# Altium schematic symbol library Display_Graphic.SchLib: 39 symbols
Pins are listed as number, name and electrical type; pins without a type are passive.

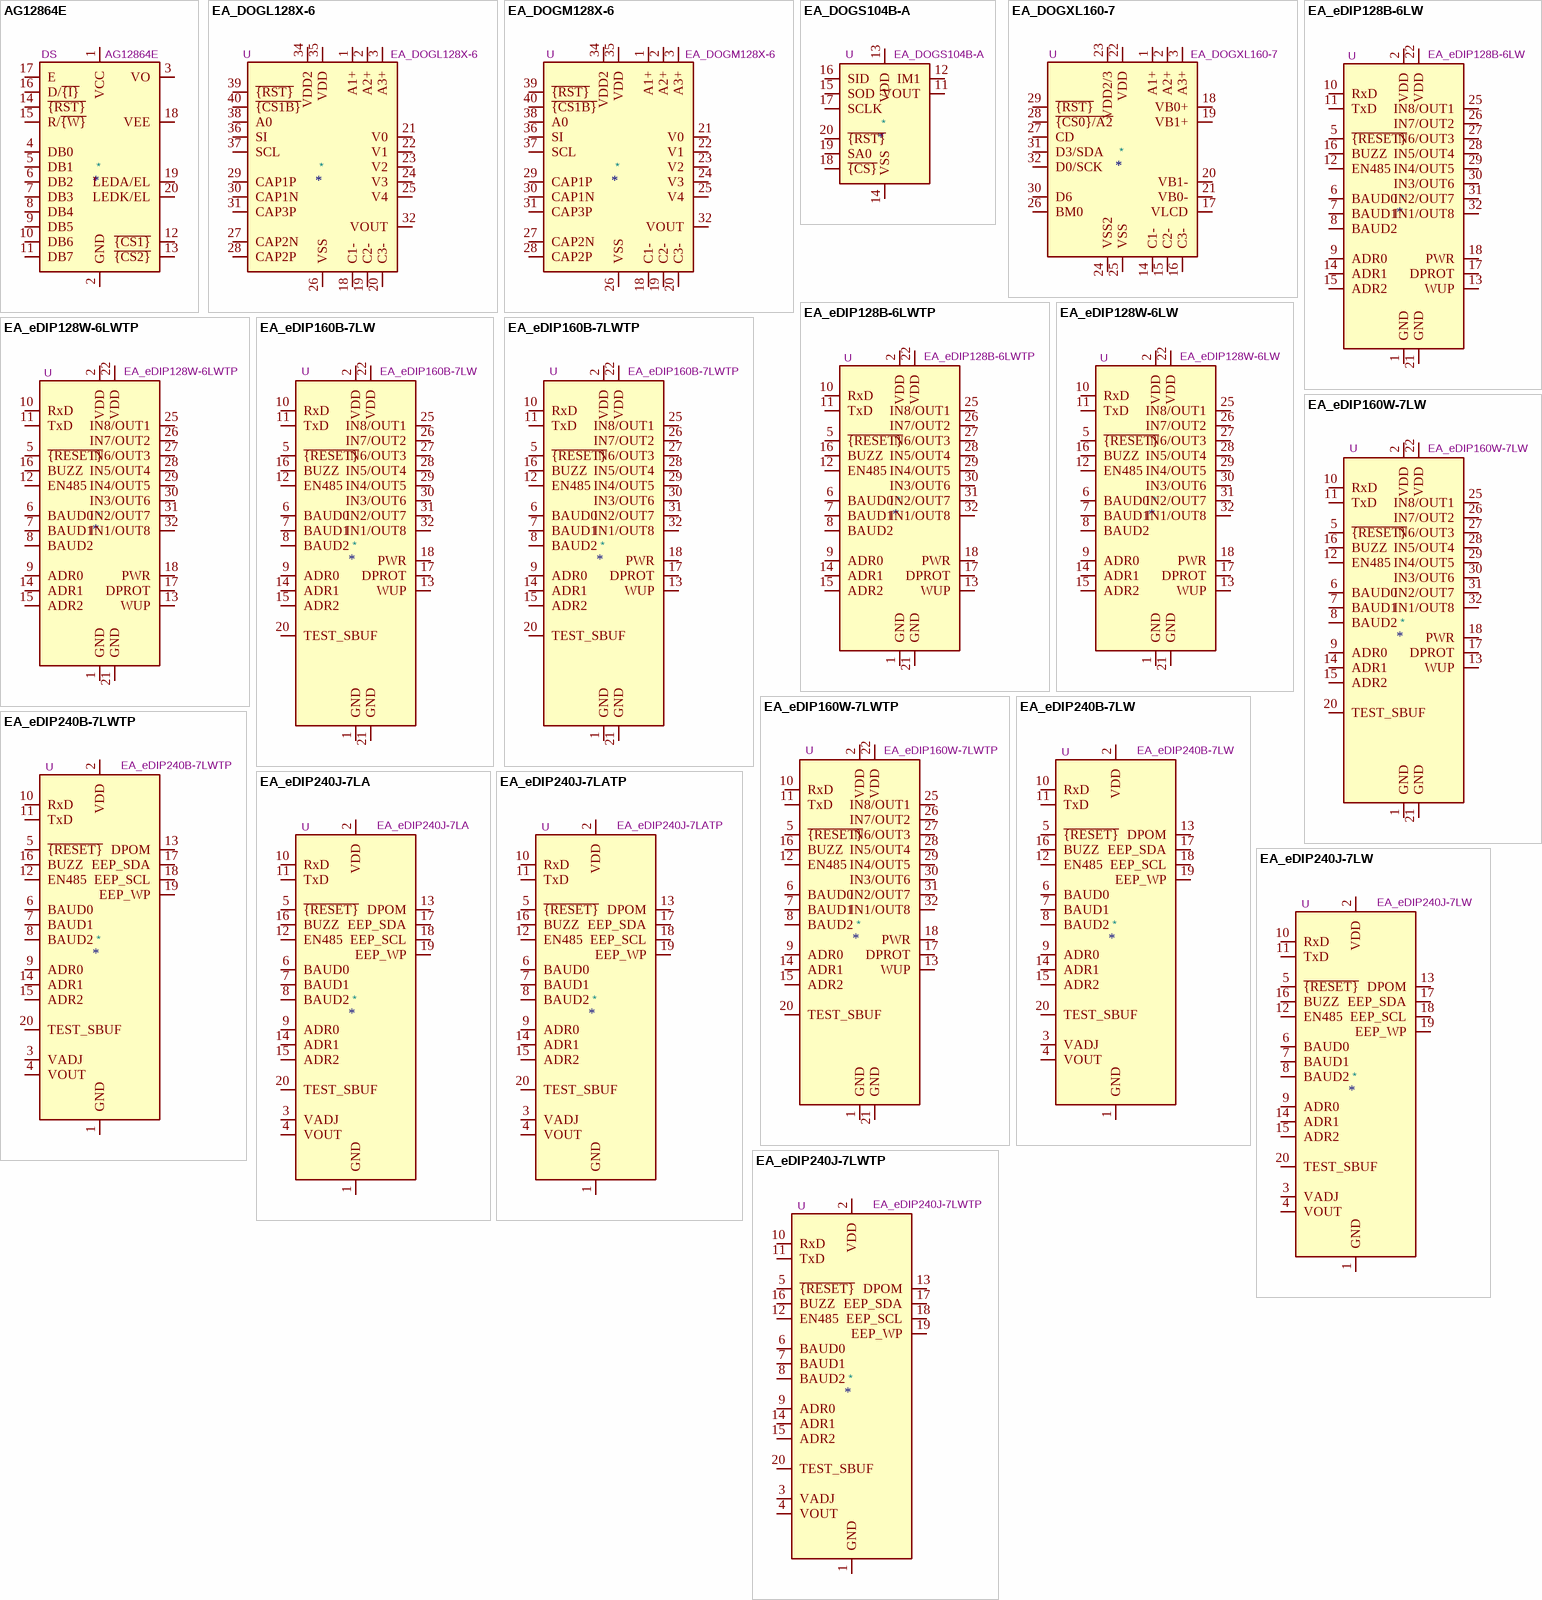
[diagram p0: symbols AG12864E to EA_eDIP240J-7LWTP]

## AG12864E
designator *  value AG12864E  Reference: DS
ki_keywords: display LCD graphic; ki_description: Graphics Display 128x64px,  8b parallel, 1/64 Duty, 3.3V or 5V VDD; ki_fp_filters: *AG12864E*; Footprint: Display:AG12864E; Datasheet: https://www.digchip.com/datasheets/parts/datasheet/1121/AG-12864E-pdf.php
pins: 1 VCC, 2 GND, 3 VO, 4 DB0, 5 DB1, 6 DB2, 7 DB3, 8 DB4, 9 DB5, 10 DB6, 11 DB7, 12 ~{{CS1}}, 13 ~{{CS2}}, 14 ~{{RST}}, 15 R/~{{W}}, 16 D/~{{I}}, 17 E, 18 VEE, 19 LEDA/EL, 20 LEDK/EL

## EA_DOGL128X-6
designator *  value EA_DOGL128X-6  Reference: U
ki_keywords: display LCD graphic; ki_description: EA DOGL128X-6 Graphical Display 128x64 optional backlight SPI 3.0-3.3V; ki_fp_filters: EA*DOGL128*6*; Footprint: Display:EA_DOGL128-6; Datasheet: https://www.lcd-module.com/eng/pdf/grafik/dogl128-6e.pdf
pins: 1 A1+, 2 A2+, 3 A3+, 18 C1-, 19 C2-, 20 C3-, 21 V0, 22 V1, 23 V2, 24 V3, 25 V4, 26 VSS, 27 CAP2N, 28 CAP2P, 29 CAP1P, 30 CAP1N, 31 CAP3P, 32 VOUT, 33 VSS hidden, 34 VDD2, 35 VDD, 36 SI, 37 SCL, 38 A0, 39 ~{{RST}}, 40 ~{{CS1B}}

## EA_DOGM128X-6
designator *  value EA_DOGM128X-6  Reference: U
ki_keywords: display LCD graphic; ki_description: EA DOGM128X-6 Graphical Display 128x64 optional backlight SPI 3.0-3.3V; ki_fp_filters: EA*DOGM128*6*; Footprint: Display:EA_DOGM128-6; Datasheet: https://www.lcd-module.de/eng/pdf/grafik/dogm128e.pdf
pins: 1 A1+, 2 A2+, 3 A3+, 18 C1-, 19 C2-, 20 C3-, 21 V0, 22 V1, 23 V2, 24 V3, 25 V4, 26 VSS, 27 CAP2N, 28 CAP2P, 29 CAP1P, 30 CAP1N, 31 CAP3P, 32 VOUT, 33 VSS hidden, 34 VDD2, 35 VDD, 36 SI, 37 SCL, 38 A0, 39 ~{{RST}}, 40 ~{{CS1B}}

## EA_DOGS104B-A
designator *  value EA_DOGS104B-A  Reference: U
ki_keywords: display LCD graphic; ki_description: LCD 4x10 character display blue transmissive background, +3.3V VDD, I2C or SPI; ki_fp_filters: *EA*DOGS104*; Footprint: Display:EA_DOGS104X-A; Datasheet: http://www.lcd-module.com/fileadmin/eng/pdf/doma/dogs104e.pdf
pins: 1 NC hidden, 2 NC hidden, 9 NC hidden, 10 NC hidden, 11 VOUT, 12 IM1, 13 VDD, 14 VSS, 15 SOD, 16 SID, 17 SCLK, 18 ~{{CS}}, 19 SA0, 20 ~{{RST}}

## EA_DOGXL160-7
designator *  value EA_DOGXL160-7  Reference: U
ki_keywords: display LCD graphic; ki_description: EA DOGXL160-7 Graphical Display 160x104 no back light I2C SPI 2.7-3.3V; ki_fp_filters: EA*DOGXL160*7*; Footprint: Display:EA_DOGXL160-7; Datasheet: http://www.lcd-module.com/eng/pdf/grafik/dogxl160-7e.pdf
pins: 1 A1+, 2 A2+, 3 A3+, 14 C1-, 15 C2-, 16 C3-, 17 VLCD, 18 VB0+, 19 VB1+, 20 VB1-, 21 VB0-, 22 VDD, 23 VDD2/3, 24 VSS2, 25 VSS, 26 BM0, 27 CD, 28 ~{{CS0}/A2}, 29 ~{{RST}}, 30 D6, 31 D3/SDA, 32 D0/SCK

## EA_eDIP128B-6LW
designator *  value EA_eDIP128B-6LW  Reference: U
ki_keywords: display LCD graphic; ki_description: LCD-graphical display with LED backlight blue negative, 3.3V - 5V VDD, RS-232. I2C or SPI; ki_fp_filters: *EA*eDIP128B*; Footprint: Display:EA-eDIP128B-XXX; Datasheet: http://www.lcd-module.com/fileadmin/eng/pdf/grafik/edip128-6e.pdf
pins: 1 GND, 2 VDD, 3 NC hidden, 4 NC hidden, 5 ~{{RESET}}, 6 BAUD0, 7 BAUD1, 8 BAUD2, 9 ADR0, 10 RxD, 11 TxD, 12 EN485, 13 WUP, 14 ADR1, 15 ADR2, 16 BUZZ, 17 DPROT, 18 PWR, 19 NC hidden, 21 GND, 22 VDD, 23 NC hidden, 24 NC hidden, 25 IN8/OUT1, 26 IN7/OUT2, 27 IN6/OUT3, 28 IN5/OUT4, 29 IN4/OUT5, 30 IN3/OUT6, 31 IN2/OUT7, 32 IN1/OUT8

## EA_eDIP128B-6LWTP
designator *  value EA_eDIP128B-6LWTP  Reference: U
ki_keywords: display LCD graphic; ki_description: LCD-graphical display with LED backlight and touch panel blue negative, 3.3V - 5V VDD, RS-232. I2C or SPI; ki_fp_filters: *EA*eDIP128B*; Footprint: Display:EA-eDIP128B-XXX; Datasheet: http://www.lcd-module.com/fileadmin/eng/pdf/grafik/edip128-6e.pdf
pins: 1 GND, 2 VDD, 3 NC hidden, 4 NC hidden, 5 ~{{RESET}}, 6 BAUD0, 7 BAUD1, 8 BAUD2, 9 ADR0, 10 RxD, 11 TxD, 12 EN485, 13 WUP, 14 ADR1, 15 ADR2, 16 BUZZ, 17 DPROT, 18 PWR, 19 NC hidden, 21 GND, 22 VDD, 23 NC hidden, 24 NC hidden, 25 IN8/OUT1, 26 IN7/OUT2, 27 IN6/OUT3, 28 IN5/OUT4, 29 IN4/OUT5, 30 IN3/OUT6, 31 IN2/OUT7, 32 IN1/OUT8

## EA_eDIP128W-6LW
designator *  value EA_eDIP128W-6LW  Reference: U
ki_keywords: display LCD graphic; ki_description: LCD-graphical display with LED backlight positive mode FSTN, 3.3V - 5V VDD, RS-232. I2C or SPI; ki_fp_filters: *EA*eDIP128B*; Footprint: Display:EA-eDIP128B-XXX; Datasheet: http://www.lcd-module.com/fileadmin/eng/pdf/grafik/edip128-6e.pdf
pins: 1 GND, 2 VDD, 3 NC hidden, 4 NC hidden, 5 ~{{RESET}}, 6 BAUD0, 7 BAUD1, 8 BAUD2, 9 ADR0, 10 RxD, 11 TxD, 12 EN485, 13 WUP, 14 ADR1, 15 ADR2, 16 BUZZ, 17 DPROT, 18 PWR, 19 NC hidden, 21 GND, 22 VDD, 23 NC hidden, 24 NC hidden, 25 IN8/OUT1, 26 IN7/OUT2, 27 IN6/OUT3, 28 IN5/OUT4, 29 IN4/OUT5, 30 IN3/OUT6, 31 IN2/OUT7, 32 IN1/OUT8

## EA_eDIP128W-6LWTP
designator *  value EA_eDIP128W-6LWTP  Reference: U
ki_keywords: display LCD graphic; ki_description: LCD-graphical display with LED backlight and touch panel positive mode FSTN, 3.3V - 5V VDD, RS-232. I2C or SPI; ki_fp_filters: *EA*eDIP128B*; Footprint: Display:EA-eDIP128B-XXX; Datasheet: http://www.lcd-module.com/fileadmin/eng/pdf/grafik/edip128-6e.pdf
pins: 1 GND, 2 VDD, 3 NC hidden, 4 NC hidden, 5 ~{{RESET}}, 6 BAUD0, 7 BAUD1, 8 BAUD2, 9 ADR0, 10 RxD, 11 TxD, 12 EN485, 13 WUP, 14 ADR1, 15 ADR2, 16 BUZZ, 17 DPROT, 18 PWR, 19 NC hidden, 21 GND, 22 VDD, 23 NC hidden, 24 NC hidden, 25 IN8/OUT1, 26 IN7/OUT2, 27 IN6/OUT3, 28 IN5/OUT4, 29 IN4/OUT5, 30 IN3/OUT6, 31 IN2/OUT7, 32 IN1/OUT8

## EA_eDIP160B-7LW
designator *  value EA_eDIP160B-7LW  Reference: U
ki_keywords: display LCD graphic; ki_description: LCD-graphical display 160x104 with LED backlight, blue negative, 3.3V - 5V VDD, RS-232, I2C or SPI; ki_fp_filters: *EA*eDIP160*; Footprint: Display:EA_eDIP160-XXX; Datasheet: http://www.lcd-module.com/fileadmin/eng/pdf/grafik/edip160-7e.pdf
pins: 1 GND, 2 VDD, 3 NC hidden, 4 NC hidden, 5 ~{{RESET}}, 6 BAUD0, 7 BAUD1, 8 BAUD2, 9 ADR0, 10 RxD, 11 TxD, 12 EN485, 13 WUP, 14 ADR1, 15 ADR2, 16 BUZZ, 17 DPROT, 18 PWR, 19 NC hidden, 20 TEST_SBUF, 21 GND, 22 VDD, 23 NC hidden, 24 NC hidden, 25 IN8/OUT1, 26 IN7/OUT2, 27 IN6/OUT3, 28 IN5/OUT4, 29 IN4/OUT5, 30 IN3/OUT6, 31 IN2/OUT7, 32 IN1/OUT8, 33 NC hidden, 34 NC hidden, 35 NC hidden, 36 NC hidden, 37 NC hidden, 38 NC hidden, 39 NC hidden, 40 NC hidden

## EA_eDIP160B-7LWTP
designator *  value EA_eDIP160B-7LWTP  Reference: U
ki_keywords: display LCD graphic; ki_description: LCD-graphical display 160x104 with LED backlight and touch panel, blue negative, 3.3V - 5V VDD, RS-232, I2C or SPI; ki_fp_filters: *EA*eDIP160*; Footprint: Display:EA_eDIP160-XXX; Datasheet: http://www.lcd-module.com/fileadmin/eng/pdf/grafik/edip160-7e.pdf
pins: 1 GND, 2 VDD, 3 NC hidden, 4 NC hidden, 5 ~{{RESET}}, 6 BAUD0, 7 BAUD1, 8 BAUD2, 9 ADR0, 10 RxD, 11 TxD, 12 EN485, 13 WUP, 14 ADR1, 15 ADR2, 16 BUZZ, 17 DPROT, 18 PWR, 19 NC hidden, 20 TEST_SBUF, 21 GND, 22 VDD, 23 NC hidden, 24 NC hidden, 25 IN8/OUT1, 26 IN7/OUT2, 27 IN6/OUT3, 28 IN5/OUT4, 29 IN4/OUT5, 30 IN3/OUT6, 31 IN2/OUT7, 32 IN1/OUT8, 33 NC hidden, 34 NC hidden, 35 NC hidden, 36 NC hidden, 37 NC hidden, 38 NC hidden, 39 NC hidden, 40 NC hidden

## EA_eDIP160W-7LW
designator *  value EA_eDIP160W-7LW  Reference: U
ki_keywords: display LCD graphic; ki_description: LCD-graphical display 160x104 with LED backlight, positive mode FSTN, 3.3V - 5V VDD, RS-232, I2C or SPI; ki_fp_filters: *EA*eDIP160*; Footprint: Display:EA_eDIP160-XXX; Datasheet: http://www.lcd-module.com/fileadmin/eng/pdf/grafik/edip160-7e.pdf
pins: 1 GND, 2 VDD, 3 NC hidden, 4 NC hidden, 5 ~{{RESET}}, 6 BAUD0, 7 BAUD1, 8 BAUD2, 9 ADR0, 10 RxD, 11 TxD, 12 EN485, 13 WUP, 14 ADR1, 15 ADR2, 16 BUZZ, 17 DPROT, 18 PWR, 19 NC hidden, 20 TEST_SBUF, 21 GND, 22 VDD, 23 NC hidden, 24 NC hidden, 25 IN8/OUT1, 26 IN7/OUT2, 27 IN6/OUT3, 28 IN5/OUT4, 29 IN4/OUT5, 30 IN3/OUT6, 31 IN2/OUT7, 32 IN1/OUT8, 33 NC hidden, 34 NC hidden, 35 NC hidden, 36 NC hidden, 37 NC hidden, 38 NC hidden, 39 NC hidden, 40 NC hidden

## EA_eDIP160W-7LWTP
designator *  value EA_eDIP160W-7LWTP  Reference: U
ki_keywords: display LCD graphic; ki_description: LCD-graphical display 160x104 with LED backlight and touch panel, positive mode FSTN, 3.3V - 5V VDD, RS-232, I2C or SPI; ki_fp_filters: *EA*eDIP160*; Footprint: Display:EA_eDIP160-XXX; Datasheet: http://www.lcd-module.com/fileadmin/eng/pdf/grafik/edip160-7e.pdf
pins: 1 GND, 2 VDD, 3 NC hidden, 4 NC hidden, 5 ~{{RESET}}, 6 BAUD0, 7 BAUD1, 8 BAUD2, 9 ADR0, 10 RxD, 11 TxD, 12 EN485, 13 WUP, 14 ADR1, 15 ADR2, 16 BUZZ, 17 DPROT, 18 PWR, 19 NC hidden, 20 TEST_SBUF, 21 GND, 22 VDD, 23 NC hidden, 24 NC hidden, 25 IN8/OUT1, 26 IN7/OUT2, 27 IN6/OUT3, 28 IN5/OUT4, 29 IN4/OUT5, 30 IN3/OUT6, 31 IN2/OUT7, 32 IN1/OUT8, 33 NC hidden, 34 NC hidden, 35 NC hidden, 36 NC hidden, 37 NC hidden, 38 NC hidden, 39 NC hidden, 40 NC hidden

## EA_eDIP240B-7LW
designator *  value EA_eDIP240B-7LW  Reference: U
ki_keywords: display LCD graphic; ki_description: LCD graphical display with white LED background blue negative, 240x128, +5V VDD, RS-232, I2C or SPI; ki_fp_filters: *EA*eDIP240*; Footprint: Display:EA_eDIP240-XXX; Datasheet: http://www.lcd-module.com/fileadmin/eng/pdf/grafik/edip240-7e.pdf
pins: 1 GND, 2 VDD, 3 VADJ, 4 VOUT, 5 ~{{RESET}}, 6 BAUD0, 7 BAUD1, 8 BAUD2, 9 ADR0, 10 RxD, 11 TxD, 12 EN485, 13 DPOM, 14 ADR1, 15 ADR2, 16 BUZZ, 17 EEP_SDA, 18 EEP_SCL, 19 EEP_WP, 20 TEST_SBUF, 21 NC hidden, 22 NC hidden, 23 NC hidden, 24 NC hidden, 25 NC hidden, 26 NC hidden, 27 NC hidden, 28 NC hidden, 29 NC hidden, 30 NC hidden, 31 NC hidden, 32 NC hidden, 33 NC hidden, 34 NC hidden, 35 NC hidden, 36 NC hidden, 37 NC hidden, 38 NC hidden, 39 NC hidden, 40 NC hidden

## EA_eDIP240B-7LWTP
designator *  value EA_eDIP240B-7LWTP  Reference: U
ki_keywords: display LCD graphic; ki_description: LCD graphical display with white LED background and touch panel blue negative, 240x128, +5V VDD, RS-232, I2C or SPI; ki_fp_filters: *EA*eDIP240*; Footprint: Display:EA_eDIP240-XXX; Datasheet: http://www.lcd-module.com/fileadmin/eng/pdf/grafik/edip240-7e.pdf
pins: 1 GND, 2 VDD, 3 VADJ, 4 VOUT, 5 ~{{RESET}}, 6 BAUD0, 7 BAUD1, 8 BAUD2, 9 ADR0, 10 RxD, 11 TxD, 12 EN485, 13 DPOM, 14 ADR1, 15 ADR2, 16 BUZZ, 17 EEP_SDA, 18 EEP_SCL, 19 EEP_WP, 20 TEST_SBUF, 21 NC hidden, 22 NC hidden, 23 NC hidden, 24 NC hidden, 25 NC hidden, 26 NC hidden, 27 NC hidden, 28 NC hidden, 29 NC hidden, 30 NC hidden, 31 NC hidden, 32 NC hidden, 33 NC hidden, 34 NC hidden, 35 NC hidden, 36 NC hidden, 37 NC hidden, 38 NC hidden, 39 NC hidden, 40 NC hidden

## EA_eDIP240J-7LA
designator *  value EA_eDIP240J-7LA  Reference: U
ki_keywords: display LCD graphic; ki_description: LCD graphical display with amber LED background blue positive mode FSTN 240x128, +5V VDD, RS-232, I2C or SPI; ki_fp_filters: *EA*eDIP240*; Footprint: Display:EA_eDIP240-XXX; Datasheet: http://www.lcd-module.com/fileadmin/eng/pdf/grafik/edip240-7e.pdf
pins: 1 GND, 2 VDD, 3 VADJ, 4 VOUT, 5 ~{{RESET}}, 6 BAUD0, 7 BAUD1, 8 BAUD2, 9 ADR0, 10 RxD, 11 TxD, 12 EN485, 13 DPOM, 14 ADR1, 15 ADR2, 16 BUZZ, 17 EEP_SDA, 18 EEP_SCL, 19 EEP_WP, 20 TEST_SBUF, 21 NC hidden, 22 NC hidden, 23 NC hidden, 24 NC hidden, 25 NC hidden, 26 NC hidden, 27 NC hidden, 28 NC hidden, 29 NC hidden, 30 NC hidden, 31 NC hidden, 32 NC hidden, 33 NC hidden, 34 NC hidden, 35 NC hidden, 36 NC hidden, 37 NC hidden, 38 NC hidden, 39 NC hidden, 40 NC hidden

## EA_eDIP240J-7LATP
designator *  value EA_eDIP240J-7LATP  Reference: U
ki_keywords: display LCD graphic; ki_description: LCD graphical display with amber LED background and touch panel blue positive mode FSTN, 240x128, +5V VDD, RS-232, I2C or SPI; ki_fp_filters: *EA*eDIP240*; Footprint: Display:EA_eDIP240-XXX; Datasheet: http://www.lcd-module.com/fileadmin/eng/pdf/grafik/edip240-7e.pdf
pins: 1 GND, 2 VDD, 3 VADJ, 4 VOUT, 5 ~{{RESET}}, 6 BAUD0, 7 BAUD1, 8 BAUD2, 9 ADR0, 10 RxD, 11 TxD, 12 EN485, 13 DPOM, 14 ADR1, 15 ADR2, 16 BUZZ, 17 EEP_SDA, 18 EEP_SCL, 19 EEP_WP, 20 TEST_SBUF, 21 NC hidden, 22 NC hidden, 23 NC hidden, 24 NC hidden, 25 NC hidden, 26 NC hidden, 27 NC hidden, 28 NC hidden, 29 NC hidden, 30 NC hidden, 31 NC hidden, 32 NC hidden, 33 NC hidden, 34 NC hidden, 35 NC hidden, 36 NC hidden, 37 NC hidden, 38 NC hidden, 39 NC hidden, 40 NC hidden

## EA_eDIP240J-7LW
designator *  value EA_eDIP240J-7LW  Reference: U
ki_keywords: display LCD graphic; ki_description: LCD graphical display with white LED background blue positive mode FSTN, 240x128, +5V VDD, RS-232, I2C or SPI; ki_fp_filters: *EA*eDIP240*; Footprint: Display:EA_eDIP240-XXX; Datasheet: http://www.lcd-module.com/fileadmin/eng/pdf/grafik/edip240-7e.pdf
pins: 1 GND, 2 VDD, 3 VADJ, 4 VOUT, 5 ~{{RESET}}, 6 BAUD0, 7 BAUD1, 8 BAUD2, 9 ADR0, 10 RxD, 11 TxD, 12 EN485, 13 DPOM, 14 ADR1, 15 ADR2, 16 BUZZ, 17 EEP_SDA, 18 EEP_SCL, 19 EEP_WP, 20 TEST_SBUF, 21 NC hidden, 22 NC hidden, 23 NC hidden, 24 NC hidden, 25 NC hidden, 26 NC hidden, 27 NC hidden, 28 NC hidden, 29 NC hidden, 30 NC hidden, 31 NC hidden, 32 NC hidden, 33 NC hidden, 34 NC hidden, 35 NC hidden, 36 NC hidden, 37 NC hidden, 38 NC hidden, 39 NC hidden, 40 NC hidden

## EA_eDIP240J-7LWTP
designator *  value EA_eDIP240J-7LWTP  Reference: U
ki_keywords: display LCD graphic; ki_description: LCD graphical display with amber LED background blue positive mode FSTN, 240x128, +5V VDD, RS-232, I2C or SPI; ki_fp_filters: *EA*eDIP240*; Footprint: Display:EA_eDIP240-XXX; Datasheet: http://www.lcd-module.com/fileadmin/eng/pdf/grafik/edip240-7e.pdf
pins: 1 GND, 2 VDD, 3 VADJ, 4 VOUT, 5 ~{{RESET}}, 6 BAUD0, 7 BAUD1, 8 BAUD2, 9 ADR0, 10 RxD, 11 TxD, 12 EN485, 13 DPOM, 14 ADR1, 15 ADR2, 16 BUZZ, 17 EEP_SDA, 18 EEP_SCL, 19 EEP_WP, 20 TEST_SBUF, 21 NC hidden, 22 NC hidden, 23 NC hidden, 24 NC hidden, 25 NC hidden, 26 NC hidden, 27 NC hidden, 28 NC hidden, 29 NC hidden, 30 NC hidden, 31 NC hidden, 32 NC hidden, 33 NC hidden, 34 NC hidden, 35 NC hidden, 36 NC hidden, 37 NC hidden, 38 NC hidden, 39 NC hidden, 40 NC hidden

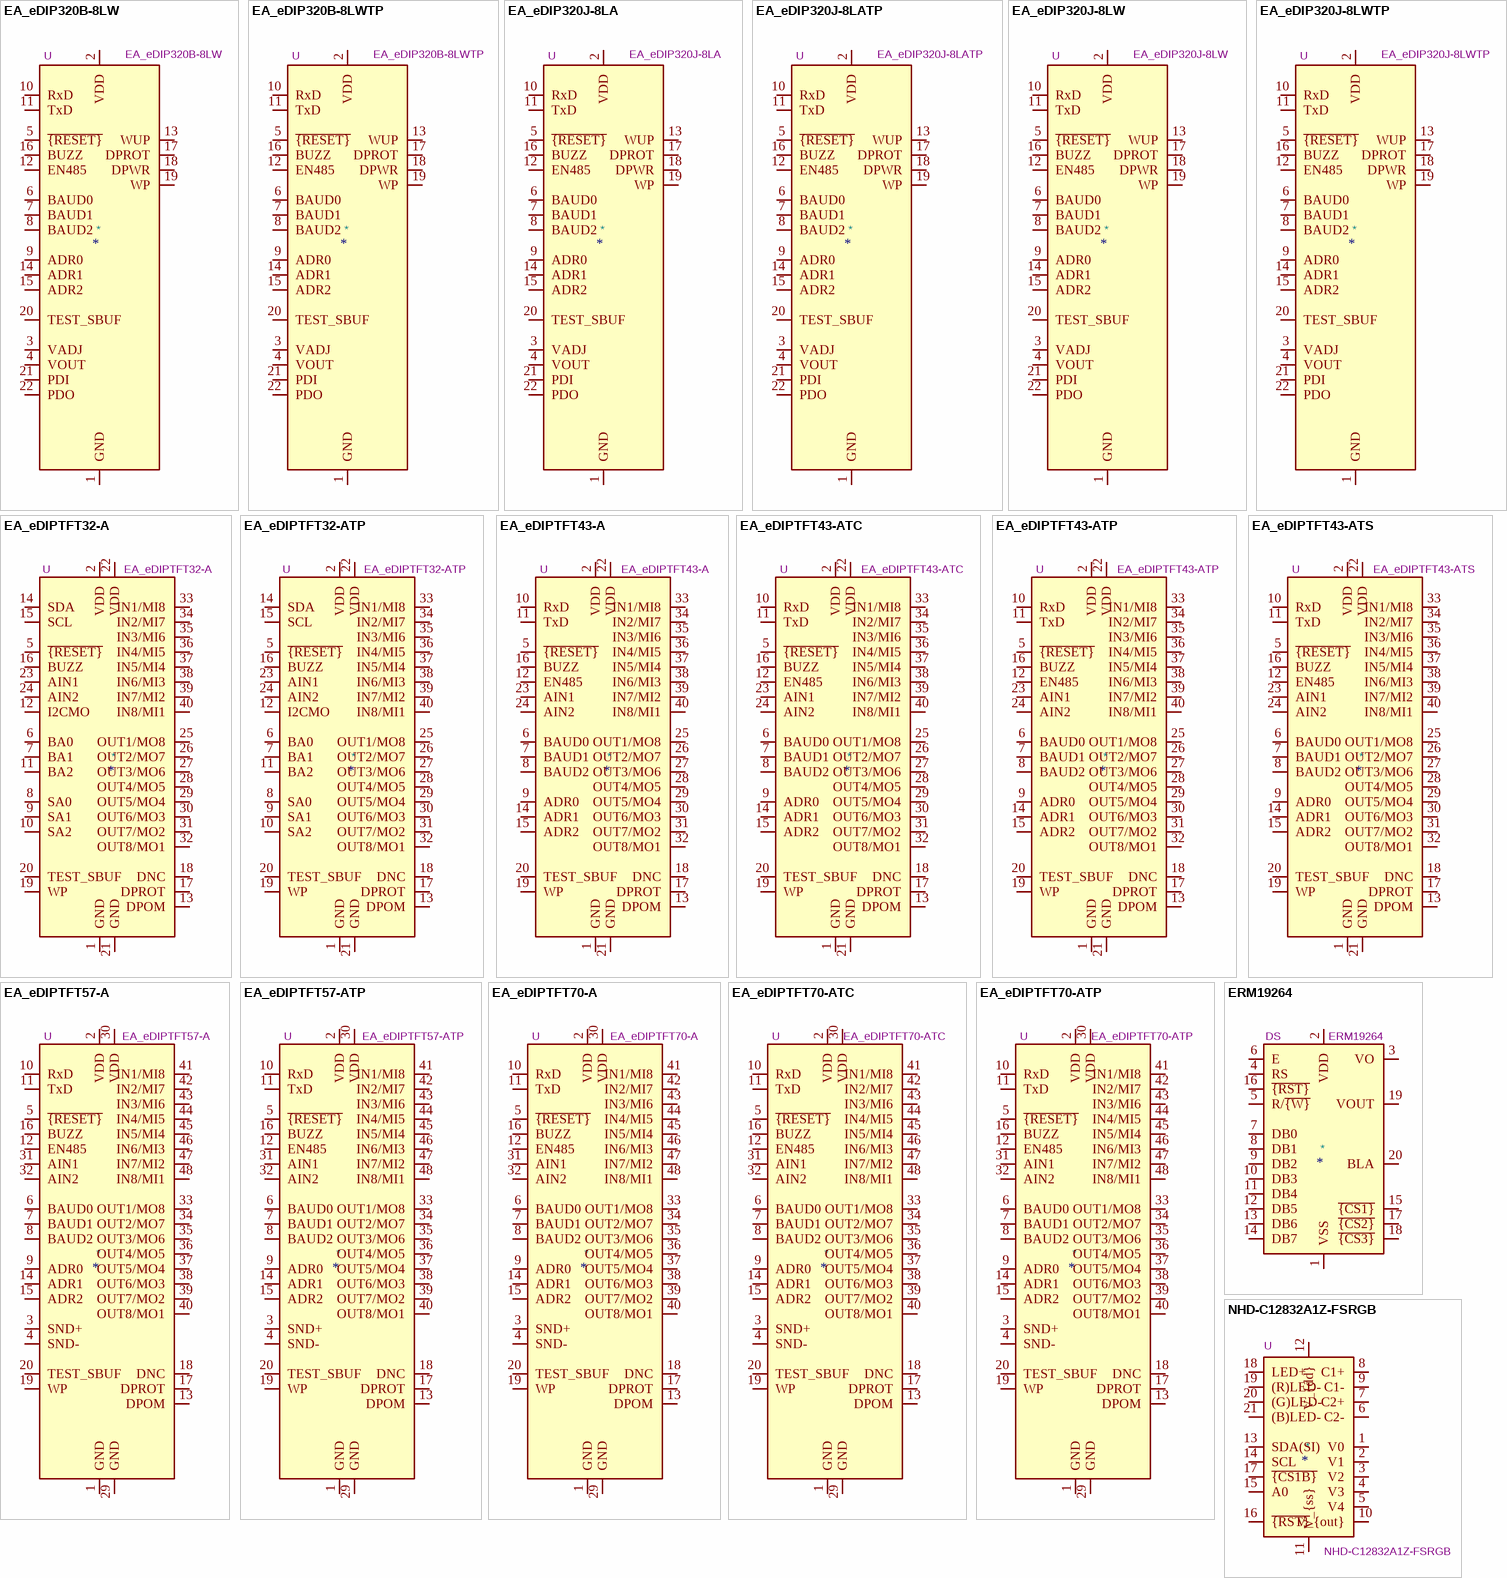
[diagram p1: symbols EA_eDIP320B-8LW to NHD-C12832A1Z-FSRGB]

## EA_eDIP320B-8LW
designator *  value EA_eDIP320B-8LW  Reference: U
ki_keywords: display LCD graphic; ki_description: LCD graphical display 320x240 white LED backlight blue negative, +5V VDD, RS-232, I2C or SPI; ki_fp_filters: *EA*eDIP320*; Footprint: Display:EA_eDIP320X-XXX; Datasheet: http://www.lcd-module.com/fileadmin/eng/pdf/grafik/edip320-8e.pdf
pins: 1 GND, 2 VDD, 3 VADJ, 4 VOUT, 5 ~{{RESET}}, 6 BAUD0, 7 BAUD1, 8 BAUD2, 9 ADR0, 10 RxD, 11 TxD, 12 EN485, 13 WUP, 14 ADR1, 15 ADR2, 16 BUZZ, 17 DPROT, 18 DPWR, 19 WP, 20 TEST_SBUF, 21 PDI, 22 PDO, 23 NC hidden, 24 NC hidden, 25 NC hidden, 26 NC hidden, 27 NC hidden, 28 NC hidden, 29 NC hidden, 30 NC hidden, 31 NC hidden, 32 NC hidden, 33 NC hidden, 34 NC hidden, 35 NC hidden, 36 NC hidden, 37 NC hidden, 38 NC hidden, 39 NC hidden, 40 NC hidden, 41 NC hidden, 42 NC hidden, 43 NC hidden, 44 NC hidden, 45 NC hidden, 46 NC hidden, 47 NC hidden, 78 NC hidden

## EA_eDIP320B-8LWTP
designator *  value EA_eDIP320B-8LWTP  Reference: U
ki_keywords: display LCD graphic; ki_description: LCD graphical display 320x240 white LED backlight with touch panel blue negative, +5V VDD, RS-232, I2C or SPI; ki_fp_filters: *EA*eDIP320*; Footprint: Display:EA_eDIP320X-XXX; Datasheet: http://www.lcd-module.com/fileadmin/eng/pdf/grafik/edip320-8e.pdf
pins: 1 GND, 2 VDD, 3 VADJ, 4 VOUT, 5 ~{{RESET}}, 6 BAUD0, 7 BAUD1, 8 BAUD2, 9 ADR0, 10 RxD, 11 TxD, 12 EN485, 13 WUP, 14 ADR1, 15 ADR2, 16 BUZZ, 17 DPROT, 18 DPWR, 19 WP, 20 TEST_SBUF, 21 PDI, 22 PDO, 23 NC hidden, 24 NC hidden, 25 NC hidden, 26 NC hidden, 27 NC hidden, 28 NC hidden, 29 NC hidden, 30 NC hidden, 31 NC hidden, 32 NC hidden, 33 NC hidden, 34 NC hidden, 35 NC hidden, 36 NC hidden, 37 NC hidden, 38 NC hidden, 39 NC hidden, 40 NC hidden, 41 NC hidden, 42 NC hidden, 43 NC hidden, 44 NC hidden, 45 NC hidden, 46 NC hidden, 47 NC hidden, 78 NC hidden

## EA_eDIP320J-8LA
designator *  value EA_eDIP320J-8LA  Reference: U
ki_keywords: display LCD graphic; ki_description: LCD graphical display 320x240 amber LED backlight blue positive FSTN, +5V VDD, RS-232, I2C or SPI; ki_fp_filters: *EA*eDIP320*; Footprint: Display:EA_eDIP320X-XXX; Datasheet: http://www.lcd-module.com/fileadmin/eng/pdf/grafik/edip320-8e.pdf
pins: 1 GND, 2 VDD, 3 VADJ, 4 VOUT, 5 ~{{RESET}}, 6 BAUD0, 7 BAUD1, 8 BAUD2, 9 ADR0, 10 RxD, 11 TxD, 12 EN485, 13 WUP, 14 ADR1, 15 ADR2, 16 BUZZ, 17 DPROT, 18 DPWR, 19 WP, 20 TEST_SBUF, 21 PDI, 22 PDO, 23 NC hidden, 24 NC hidden, 25 NC hidden, 26 NC hidden, 27 NC hidden, 28 NC hidden, 29 NC hidden, 30 NC hidden, 31 NC hidden, 32 NC hidden, 33 NC hidden, 34 NC hidden, 35 NC hidden, 36 NC hidden, 37 NC hidden, 38 NC hidden, 39 NC hidden, 40 NC hidden, 41 NC hidden, 42 NC hidden, 43 NC hidden, 44 NC hidden, 45 NC hidden, 46 NC hidden, 47 NC hidden, 78 NC hidden

## EA_eDIP320J-8LATP
designator *  value EA_eDIP320J-8LATP  Reference: U
ki_keywords: display LCD graphic; ki_description: LCD graphical display 320x240 amber LED backlight with touch panel blue positive mode FSTN, +5V VDD, RS-232, I2C or SPI; ki_fp_filters: *EA*eDIP320*; Footprint: Display:EA_eDIP320X-XXX; Datasheet: http://www.lcd-module.com/fileadmin/eng/pdf/grafik/edip320-8e.pdf
pins: 1 GND, 2 VDD, 3 VADJ, 4 VOUT, 5 ~{{RESET}}, 6 BAUD0, 7 BAUD1, 8 BAUD2, 9 ADR0, 10 RxD, 11 TxD, 12 EN485, 13 WUP, 14 ADR1, 15 ADR2, 16 BUZZ, 17 DPROT, 18 DPWR, 19 WP, 20 TEST_SBUF, 21 PDI, 22 PDO, 23 NC hidden, 24 NC hidden, 25 NC hidden, 26 NC hidden, 27 NC hidden, 28 NC hidden, 29 NC hidden, 30 NC hidden, 31 NC hidden, 32 NC hidden, 33 NC hidden, 34 NC hidden, 35 NC hidden, 36 NC hidden, 37 NC hidden, 38 NC hidden, 39 NC hidden, 40 NC hidden, 41 NC hidden, 42 NC hidden, 43 NC hidden, 44 NC hidden, 45 NC hidden, 46 NC hidden, 47 NC hidden, 78 NC hidden

## EA_eDIP320J-8LW
designator *  value EA_eDIP320J-8LW  Reference: U
ki_keywords: display LCD graphic; ki_description: LCD graphical display 320x240 white LED backlight blue positive mode FSTN, +5V VDD, RS-232, I2C or SPI; ki_fp_filters: *EA*eDIP320*; Footprint: Display:EA_eDIP320X-XXX; Datasheet: http://www.lcd-module.com/fileadmin/eng/pdf/grafik/edip320-8e.pdf
pins: 1 GND, 2 VDD, 3 VADJ, 4 VOUT, 5 ~{{RESET}}, 6 BAUD0, 7 BAUD1, 8 BAUD2, 9 ADR0, 10 RxD, 11 TxD, 12 EN485, 13 WUP, 14 ADR1, 15 ADR2, 16 BUZZ, 17 DPROT, 18 DPWR, 19 WP, 20 TEST_SBUF, 21 PDI, 22 PDO, 23 NC hidden, 24 NC hidden, 25 NC hidden, 26 NC hidden, 27 NC hidden, 28 NC hidden, 29 NC hidden, 30 NC hidden, 31 NC hidden, 32 NC hidden, 33 NC hidden, 34 NC hidden, 35 NC hidden, 36 NC hidden, 37 NC hidden, 38 NC hidden, 39 NC hidden, 40 NC hidden, 41 NC hidden, 42 NC hidden, 43 NC hidden, 44 NC hidden, 45 NC hidden, 46 NC hidden, 47 NC hidden, 78 NC hidden

## EA_eDIP320J-8LWTP
designator *  value EA_eDIP320J-8LWTP  Reference: U
ki_keywords: display LCD graphic; ki_description: LCD graphical display 320x240 white LED backlight with touch panel blue positive mode FSTN, +5V VDD, RS-232, I2C or SPI; ki_fp_filters: *EA*eDIP320*; Footprint: Display:EA_eDIP320X-XXX; Datasheet: http://www.lcd-module.com/fileadmin/eng/pdf/grafik/edip320-8e.pdf
pins: 1 GND, 2 VDD, 3 VADJ, 4 VOUT, 5 ~{{RESET}}, 6 BAUD0, 7 BAUD1, 8 BAUD2, 9 ADR0, 10 RxD, 11 TxD, 12 EN485, 13 WUP, 14 ADR1, 15 ADR2, 16 BUZZ, 17 DPROT, 18 DPWR, 19 WP, 20 TEST_SBUF, 21 PDI, 22 PDO, 23 NC hidden, 24 NC hidden, 25 NC hidden, 26 NC hidden, 27 NC hidden, 28 NC hidden, 29 NC hidden, 30 NC hidden, 31 NC hidden, 32 NC hidden, 33 NC hidden, 34 NC hidden, 35 NC hidden, 36 NC hidden, 37 NC hidden, 38 NC hidden, 39 NC hidden, 40 NC hidden, 41 NC hidden, 42 NC hidden, 43 NC hidden, 44 NC hidden, 45 NC hidden, 46 NC hidden, 47 NC hidden, 78 NC hidden

## EA_eDIPTFT32-A
designator *  value EA_eDIPTFT32-A  Reference: U
ki_keywords: display TFT LCD graphic; ki_description: TFT graphical display, 320x240, 16 bit colour, LED backlight, 3.3V - 5V VDD, RS-232, I2C or SPI; ki_fp_filters: *EA*eDIPTFT32*; Footprint: Display:EA_eDIPTFT32-XXX; Datasheet: http://www.lcd-module.com/fileadmin/eng/pdf/grafik/ediptft43-ae.pdf
pins: 1 GND, 2 VDD, 3 NC hidden, 4 NC hidden, 5 ~{{RESET}}, 6 BA0, 7 BA1, 8 SA0, 9 SA1, 10 SA2, 11 BA2, 12 I2CMO, 13 DPOM, 14 SDA, 15 SCL, 16 BUZZ, 17 DPROT, 18 DNC, 19 WP, 20 TEST_SBUF, 21 GND, 22 VDD, 23 AIN1, 24 AIN2, 25 OUT1/MO8, 26 OUT2/MO7, 27 OUT3/MO6, 28 OUT4/MO5, 29 OUT5/MO4, 30 OUT6/MO3, 31 OUT7/MO2, 32 OUT8/MO1, 33 IN1/MI8, 34 IN2/MI7, 35 IN3/MI6, 36 IN4/MI5, 37 IN5/MI4, 38 IN6/MI3, 39 IN7/MI2, 40 IN8/MI1

## EA_eDIPTFT32-ATP
designator *  value EA_eDIPTFT32-ATP  Reference: U
ki_keywords: display TFT LCD graphic; ki_description: TFT graphical display with touch panel, 320x240, 16 bit colour, LED backlight, 3.3V - 5V VDD, RS-232, I2C or SPI; ki_fp_filters: *EA*eDIPTFT32*; Footprint: Display:EA_eDIPTFT32-XXX; Datasheet: http://www.lcd-module.com/fileadmin/eng/pdf/grafik/ediptft43-ae.pdf
pins: 1 GND, 2 VDD, 3 NC hidden, 4 NC hidden, 5 ~{{RESET}}, 6 BA0, 7 BA1, 8 SA0, 9 SA1, 10 SA2, 11 BA2, 12 I2CMO, 13 DPOM, 14 SDA, 15 SCL, 16 BUZZ, 17 DPROT, 18 DNC, 19 WP, 20 TEST_SBUF, 21 GND, 22 VDD, 23 AIN1, 24 AIN2, 25 OUT1/MO8, 26 OUT2/MO7, 27 OUT3/MO6, 28 OUT4/MO5, 29 OUT5/MO4, 30 OUT6/MO3, 31 OUT7/MO2, 32 OUT8/MO1, 33 IN1/MI8, 34 IN2/MI7, 35 IN3/MI6, 36 IN4/MI5, 37 IN5/MI4, 38 IN6/MI3, 39 IN7/MI2, 40 IN8/MI1

## EA_eDIPTFT43-A
designator *  value EA_eDIPTFT43-A  Reference: U
ki_keywords: display TFT LCD graphic; ki_description: TFT graphical display, 480x272, 16 bit colour, LED backlight, 5V VDD, RS-232, I2C or SPI; ki_fp_filters: EA*eDIPTFT43*XXX*; Footprint: Display:EA_eDIPTFT43-XXX; Datasheet: http://www.lcd-module.com/fileadmin/eng/pdf/grafik/ediptft43-ae.pdf
pins: 1 GND, 2 VDD, 3 NC hidden, 4 NC hidden, 5 ~{{RESET}}, 6 BAUD0, 7 BAUD1, 8 BAUD2, 9 ADR0, 10 RxD, 11 TxD, 12 EN485, 13 DPOM, 14 ADR1, 15 ADR2, 16 BUZZ, 17 DPROT, 18 DNC, 19 WP, 20 TEST_SBUF, 21 GND, 22 VDD, 23 AIN1, 24 AIN2, 25 OUT1/MO8, 26 OUT2/MO7, 27 OUT3/MO6, 28 OUT4/MO5, 29 OUT5/MO4, 30 OUT6/MO3, 31 OUT7/MO2, 32 OUT8/MO1, 33 IN1/MI8, 34 IN2/MI7, 35 IN3/MI6, 36 IN4/MI5, 37 IN5/MI4, 38 IN6/MI3, 39 IN7/MI2, 40 IN8/MI1

## EA_eDIPTFT43-ATC
designator *  value EA_eDIPTFT43-ATC  Reference: U
ki_keywords: display TFT LCD graphic; ki_description: TFT graphical display, 480x272, 16 bit colour, LED backlight, 5V VDD, RS-232, I2C or SPI; ki_fp_filters: EA*eDIPTFT43*ATC*; Footprint: Display:EA_eDIPTFT43-ATC; Datasheet: http://www.lcd-module.com/fileadmin/eng/pdf/grafik/ediptft43-ae.pdf
pins: 1 GND, 2 VDD, 3 NC hidden, 4 NC hidden, 5 ~{{RESET}}, 6 BAUD0, 7 BAUD1, 8 BAUD2, 9 ADR0, 10 RxD, 11 TxD, 12 EN485, 13 DPOM, 14 ADR1, 15 ADR2, 16 BUZZ, 17 DPROT, 18 DNC, 19 WP, 20 TEST_SBUF, 21 GND, 22 VDD, 23 AIN1, 24 AIN2, 25 OUT1/MO8, 26 OUT2/MO7, 27 OUT3/MO6, 28 OUT4/MO5, 29 OUT5/MO4, 30 OUT6/MO3, 31 OUT7/MO2, 32 OUT8/MO1, 33 IN1/MI8, 34 IN2/MI7, 35 IN3/MI6, 36 IN4/MI5, 37 IN5/MI4, 38 IN6/MI3, 39 IN7/MI2, 40 IN8/MI1

## EA_eDIPTFT43-ATP
designator *  value EA_eDIPTFT43-ATP  Reference: U
ki_keywords: display TFT LCD graphic; ki_description: TFT graphical display with resistive touch panel, 480x272, 16 bit colour, LED backlight, 5V VDD, RS-232, I2C or SPI; ki_fp_filters: EA*eDIPTFT43*XXX*; Footprint: Display:EA_eDIPTFT43-XXX; Datasheet: http://www.lcd-module.com/fileadmin/eng/pdf/grafik/ediptft43-ae.pdf
pins: 1 GND, 2 VDD, 3 NC hidden, 4 NC hidden, 5 ~{{RESET}}, 6 BAUD0, 7 BAUD1, 8 BAUD2, 9 ADR0, 10 RxD, 11 TxD, 12 EN485, 13 DPOM, 14 ADR1, 15 ADR2, 16 BUZZ, 17 DPROT, 18 DNC, 19 WP, 20 TEST_SBUF, 21 GND, 22 VDD, 23 AIN1, 24 AIN2, 25 OUT1/MO8, 26 OUT2/MO7, 27 OUT3/MO6, 28 OUT4/MO5, 29 OUT5/MO4, 30 OUT6/MO3, 31 OUT7/MO2, 32 OUT8/MO1, 33 IN1/MI8, 34 IN2/MI7, 35 IN3/MI6, 36 IN4/MI5, 37 IN5/MI4, 38 IN6/MI3, 39 IN7/MI2, 40 IN8/MI1

## EA_eDIPTFT43-ATS
designator *  value EA_eDIPTFT43-ATS  Reference: U
ki_keywords: display TFT LCD graphic; ki_description: TFT graphical display with capacitive touch panel, 480x272, 16 bit colour, LED backlight, 5V VDD, RS-232, I2C or SPI; ki_fp_filters: EA*eDIPTFT43*XXX*; Footprint: Display:EA_eDIPTFT43-XXX; Datasheet: http://www.lcd-module.com/fileadmin/eng/pdf/grafik/ediptft43-ae.pdf
pins: 1 GND, 2 VDD, 3 NC hidden, 4 NC hidden, 5 ~{{RESET}}, 6 BAUD0, 7 BAUD1, 8 BAUD2, 9 ADR0, 10 RxD, 11 TxD, 12 EN485, 13 DPOM, 14 ADR1, 15 ADR2, 16 BUZZ, 17 DPROT, 18 DNC, 19 WP, 20 TEST_SBUF, 21 GND, 22 VDD, 23 AIN1, 24 AIN2, 25 OUT1/MO8, 26 OUT2/MO7, 27 OUT3/MO6, 28 OUT4/MO5, 29 OUT5/MO4, 30 OUT6/MO3, 31 OUT7/MO2, 32 OUT8/MO1, 33 IN1/MI8, 34 IN2/MI7, 35 IN3/MI6, 36 IN4/MI5, 37 IN5/MI4, 38 IN6/MI3, 39 IN7/MI2, 40 IN8/MI1

## EA_eDIPTFT57-A
designator *  value EA_eDIPTFT57-A  Reference: U
ki_keywords: display TFT LCD graphic; ki_description: TFT-graphical display. 640x480, LED backlight, +5V VDD, RS-232, I2C or SPI; ki_fp_filters: *EA*eDIPTFT57*; Footprint: Display:EA_eDIPTFT57-XXX; Datasheet: http://www.lcd-module.com/fileadmin/eng/pdf/grafik/ediptft57-ae.pdf
pins: 1 GND, 2 VDD, 3 SND+, 4 SND-, 5 ~{{RESET}}, 6 BAUD0, 7 BAUD1, 8 BAUD2, 9 ADR0, 10 RxD, 11 TxD, 12 EN485, 13 DPOM, 14 ADR1, 15 ADR2, 16 BUZZ, 17 DPROT, 18 DNC, 19 WP, 20 TEST_SBUF, 21 NC hidden, 22 NC hidden, 23 NC hidden, 24 NC hidden, 25 NC hidden, 26 NC hidden, 27 NC hidden, 28 NC hidden, 29 GND, 30 VDD, 31 AIN1, 32 AIN2, 33 OUT1/MO8, 34 OUT2/MO7, 35 OUT3/MO6, 36 OUT4/MO5, 37 OUT5/MO4, 38 OUT6/MO3, 39 OUT7/MO2, 40 OUT8/MO1, 41 IN1/MI8, 42 IN2/MI7, 43 IN3/MI6, 44 IN4/MI5, 45 IN5/MI4, 46 IN6/MI3, 47 IN7/MI2, 48 IN8/MI1

## EA_eDIPTFT57-ATP
designator *  value EA_eDIPTFT57-ATP  Reference: U
ki_keywords: display TFT LCD graphic; ki_description: TFT-graphical display with touch panel. 640x480, LED backlight, +5V VDD, RS-232, I2C or SPI; ki_fp_filters: *EA*eDIPTFT57*; Footprint: Display:EA_eDIPTFT57-XXX; Datasheet: http://www.lcd-module.com/fileadmin/eng/pdf/grafik/ediptft57-ae.pdf
pins: 1 GND, 2 VDD, 3 SND+, 4 SND-, 5 ~{{RESET}}, 6 BAUD0, 7 BAUD1, 8 BAUD2, 9 ADR0, 10 RxD, 11 TxD, 12 EN485, 13 DPOM, 14 ADR1, 15 ADR2, 16 BUZZ, 17 DPROT, 18 DNC, 19 WP, 20 TEST_SBUF, 21 NC hidden, 22 NC hidden, 23 NC hidden, 24 NC hidden, 25 NC hidden, 26 NC hidden, 27 NC hidden, 28 NC hidden, 29 GND, 30 VDD, 31 AIN1, 32 AIN2, 33 OUT1/MO8, 34 OUT2/MO7, 35 OUT3/MO6, 36 OUT4/MO5, 37 OUT5/MO4, 38 OUT6/MO3, 39 OUT7/MO2, 40 OUT8/MO1, 41 IN1/MI8, 42 IN2/MI7, 43 IN3/MI6, 44 IN4/MI5, 45 IN5/MI4, 46 IN6/MI3, 47 IN7/MI2, 48 IN8/MI1

## EA_eDIPTFT70-A
designator *  value EA_eDIPTFT70-A  Reference: U
ki_keywords: display TFT LCD graphic; ki_description: TFT-graphical display with LED background, 800x480, 16-bit colours, +5V VDD, RS-232, I2C or SPI; ki_fp_filters: *EA*eDIPTFT70*XXX*; Footprint: Display:EA_eDIPTFT70-XXX; Datasheet: http://www.lcd-module.com/fileadmin/eng/pdf/grafik/ediptft70-ae.pdf
pins: 1 GND, 2 VDD, 3 SND+, 4 SND-, 5 ~{{RESET}}, 6 BAUD0, 7 BAUD1, 8 BAUD2, 9 ADR0, 10 RxD, 11 TxD, 12 EN485, 13 DPOM, 14 ADR1, 15 ADR2, 16 BUZZ, 17 DPROT, 18 DNC, 19 WP, 20 TEST_SBUF, 21 NC hidden, 22 NC hidden, 23 NC hidden, 24 NC hidden, 25 NC hidden, 26 NC hidden, 27 NC hidden, 28 NC hidden, 29 GND, 30 VDD, 31 AIN1, 32 AIN2, 33 OUT1/MO8, 34 OUT2/MO7, 35 OUT3/MO6, 36 OUT4/MO5, 37 OUT5/MO4, 38 OUT6/MO3, 39 OUT7/MO2, 40 OUT8/MO1, 41 IN1/MI8, 42 IN2/MI7, 43 IN3/MI6, 44 IN4/MI5, 45 IN5/MI4, 46 IN6/MI3, 47 IN7/MI2, 48 IN8/MI1

## EA_eDIPTFT70-ATC
designator *  value EA_eDIPTFT70-ATC  Reference: U
ki_keywords: display TFT LCD graphic; ki_description: TFT-graphical display with LED background and capacitive touch panel, 800x480, 16-bit colours, +5V VDD, RS-232, I2C or SPI; ki_fp_filters: *EA*eDIPTFT70*ATC*; Footprint: Display:EA_eDIPTFT70-ATC; Datasheet: http://www.lcd-module.com/fileadmin/eng/pdf/grafik/ediptft70-ae.pdf
pins: 1 GND, 2 VDD, 3 SND+, 4 SND-, 5 ~{{RESET}}, 6 BAUD0, 7 BAUD1, 8 BAUD2, 9 ADR0, 10 RxD, 11 TxD, 12 EN485, 13 DPOM, 14 ADR1, 15 ADR2, 16 BUZZ, 17 DPROT, 18 DNC, 19 WP, 20 TEST_SBUF, 21 NC hidden, 22 NC hidden, 23 NC hidden, 24 NC hidden, 25 NC hidden, 26 NC hidden, 27 NC hidden, 28 NC hidden, 29 GND, 30 VDD, 31 AIN1, 32 AIN2, 33 OUT1/MO8, 34 OUT2/MO7, 35 OUT3/MO6, 36 OUT4/MO5, 37 OUT5/MO4, 38 OUT6/MO3, 39 OUT7/MO2, 40 OUT8/MO1, 41 IN1/MI8, 42 IN2/MI7, 43 IN3/MI6, 44 IN4/MI5, 45 IN5/MI4, 46 IN6/MI3, 47 IN7/MI2, 48 IN8/MI1

## EA_eDIPTFT70-ATP
designator *  value EA_eDIPTFT70-ATP  Reference: U
ki_keywords: display TFT LCD graphic; ki_description: TFT-graphical display with LED background, 800x480, 16-bit colours, +5V VDD, RS-232, I2C or SPI; ki_fp_filters: *EA*eDIPTFT70*XXX*; Footprint: Display:EA_eDIPTFT70-XXX; Datasheet: http://www.lcd-module.com/fileadmin/eng/pdf/grafik/ediptft70-ae.pdf
pins: 1 GND, 2 VDD, 3 SND+, 4 SND-, 5 ~{{RESET}}, 6 BAUD0, 7 BAUD1, 8 BAUD2, 9 ADR0, 10 RxD, 11 TxD, 12 EN485, 13 DPOM, 14 ADR1, 15 ADR2, 16 BUZZ, 17 DPROT, 18 DNC, 19 WP, 20 TEST_SBUF, 21 NC hidden, 22 NC hidden, 23 NC hidden, 24 NC hidden, 25 NC hidden, 26 NC hidden, 27 NC hidden, 28 NC hidden, 29 GND, 30 VDD, 31 AIN1, 32 AIN2, 33 OUT1/MO8, 34 OUT2/MO7, 35 OUT3/MO6, 36 OUT4/MO5, 37 OUT5/MO4, 38 OUT6/MO3, 39 OUT7/MO2, 40 OUT8/MO1, 41 IN1/MI8, 42 IN2/MI7, 43 IN3/MI6, 44 IN4/MI5, 45 IN5/MI4, 46 IN6/MI3, 47 IN7/MI2, 48 IN8/MI1

## ERM19264
designator *  value ERM19264  Reference: DS
ki_keywords: display LCD graphic; ki_description: Graphics Display 192x64px,  8b parallel, 1/64 Duty, 3.3V or 5V VDD; ki_fp_filters: ERM19264*; Footprint: Display:ERM19264; Datasheet: https://www.buydisplay.com/download/manual/ERM19264-1_Series_Datasheet.pdf
pins: 1 VSS, 2 VDD, 3 VO, 4 RS, 5 R/~{{W}}, 6 E, 7 DB0, 8 DB1, 9 DB2, 10 DB3, 11 DB4, 12 DB5, 13 DB6, 14 DB7, 15 ~{{CS1}}, 16 ~{{RST}}, 17 ~{{CS2}}, 18 ~{{CS3}}, 19 VOUT, 20 BLA

## NHD-C12832A1Z-FSRGB
designator *  value NHD-C12832A1Z-FSRGB  Reference: U
ki_keywords: lcd rgb st7565r spi 4-wire; ki_description: 128x32 graphical LCD module with common anode RGB backlight, 1/33 duty, 3.3V; ki_fp_filters: NHD?C12832A1Z?FSRGB*; Footprint: Display:NHD-C12832A1Z-FSRGB; Datasheet: https://www.newhavendisplay.com/specs/NHD-C12832A1Z-FSRGB-FBW-3V.pdf
pins: 1 V0, 2 V1, 3 V2, 4 V3, 5 V4, 6 C2-, 7 C2+, 8 C1+, 9 C1-, 10 V_{out}, 11 V_{ss}, 12 V_{dd}, 13 SDA(SI), 14 SCL, 15 A0, 16 ~{{RST}}, 17 ~{{CS1B}}, 18 LED+, 19 (R)LED-, 20 (G)LED-, 21 (B)LED-

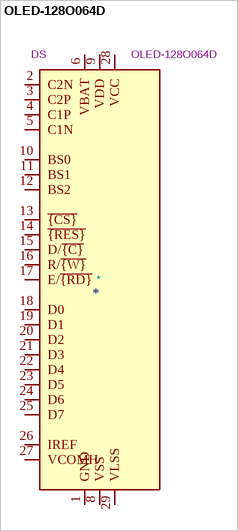
[diagram p2: symbol OLED-128O064D]

## OLED-128O064D
designator *  value OLED-128O064D  Reference: DS
ki_keywords: display oled; ki_description: OLED display 128x64; ki_fp_filters: OLED?128O064D*; Footprint: Display:OLED-128O064D; Datasheet: https://www.vishay.com/docs/37902/oled128o064dbpp3n00000.pdf
pins: 1 GND, 2 C2N, 3 C2P, 4 C1P, 5 C1N, 6 VBAT, 7 NC hidden, 8 VSS, 9 VDD, 10 BS0, 11 BS1, 12 BS2, 13 ~{{CS}}, 14 ~{{RES}}, 15 D/~{{C}}, 16 R/~{{W}}, 17 E/~{{RD}}, 18 D0, 19 D1, 20 D2, 21 D3, 22 D4, 23 D5, 24 D6, 25 D7, 26 IREF, 27 VCOMH, 28 VCC, 29 VLSS, 30 GND hidden